# EAGLE library part MAX17503S (library Maxim Integrated)
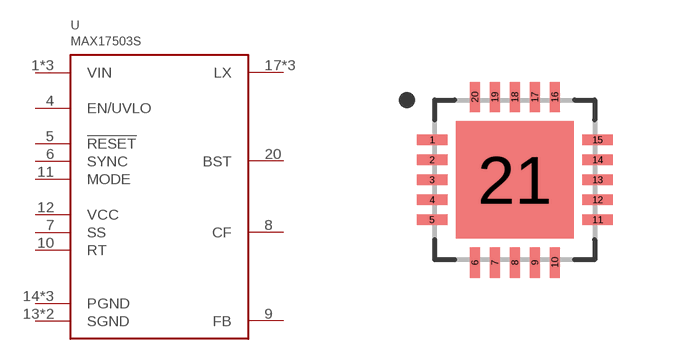
[diagram p6: symbol with the pads of QFN20; footprint QFN20]

Designator prefix U

## MAX17503S  [QFN20]
1  VIN
2  VIN
3  VIN
4  EN/UVLO
5  !RESET
6  SYNC
7  SS
8  CF
9  FB
10  RT
11  MODE
12  VCC
13  SGND
14  PGND
15  PGND
16  PGND
17  LX
18  LX
19  LX
20  BST
21  SGND

## Footprint QFN20 (pad centres in mm)
smd 0.762 x 0.254: 1 -2.07,1; 2 -2.07,0.5; 3 -2.07,0; 4 -2.07,-0.5; 5 -2.07,-1; 11 2.07,-1; 12 2.07,-0.5; 13 2.07,0; 14 2.07,0.5; 15 2.07,1
smd 0.254 x 0.762: 6 -1,-2.07; 7 -0.5,-2.07; 8 0,-2.07; 9 0.5,-2.07; 10 1,-2.07; 16 1,2.07; 17 0.5,2.07; 18 0,2.07; 19 -0.5,2.07; 20 -1,2.07
smd 2.946 x 2.946: 21 0,0